# EAGLE library part 750311082 (library Midcom Inc - EAGLE Lib V2-0)
Package Style: EE25/13/11 Mounting: THT Pins: 8 pins Bobbin: 070-5080 Best pinouts for production vary per application. Please contact Wurth Electronics Midcom, Inc. for assistance with your custom design. Website: Wurth Electronics Midcom <http://www.we-online.com/midcom> Contact us Wurth Electronics Midcom, Inc. 121 Airport Dr. Watertown, SD 57201 Phone: (605) 886-4385 Fax: (605) 886-4486 E-Mail: midcom@we-online.com
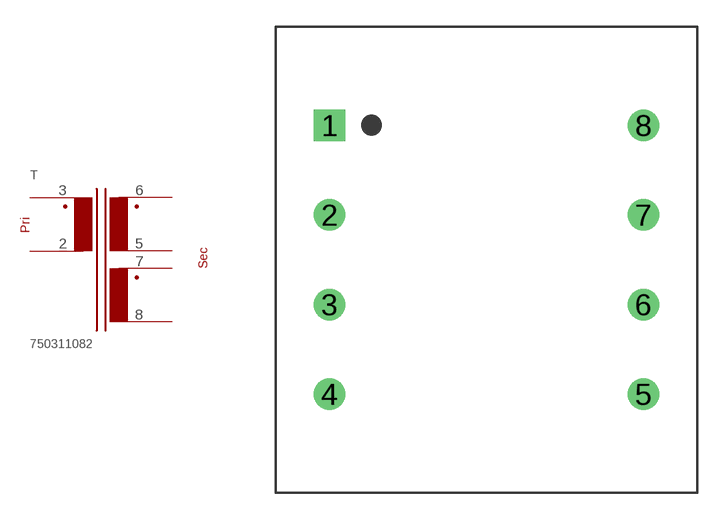
[diagram p195: symbol with the pads of EE25/13/11_THT_V_8PIN_(5080); footprint EE25/13/11_THT_V_8PIN_(5080)]

Designator prefix T

## 750311082  [EE25/13/11_THT_V_8PIN_(5080)]
2  2  pas
3  3  pas
5  5  pas
6  6  pas
7  7  pas
8  8  pas

## Footprint EE25/13/11_THT_V_8PIN_(5080) (pad centres in mm)
Package Style: EE25/13/11 Mounting: THT Pins: 8 Bobbin: 070-5080
drill 1.168 square: 1 -8.75,7.506
drill 1.168: 2 -8.75,2.502; 3 -8.75,-2.502; 4 -8.75,-7.506; 5 8.75,-7.506; 6 8.75,-2.502; 7 8.75,2.502; 8 8.75,7.506